# Altium footprint library Diodes.PcbLib: 7 footprints
Each footprint in its own frame and in the unit in brackets; x right, y up, seen from the top. Pads: shape width x height; smd on the part's side, far side on the other; paste and mask are expansions set on the pad; w line width, h text height; cw(c..) or ccw(c..) is an arc to the next point about the centre after c.
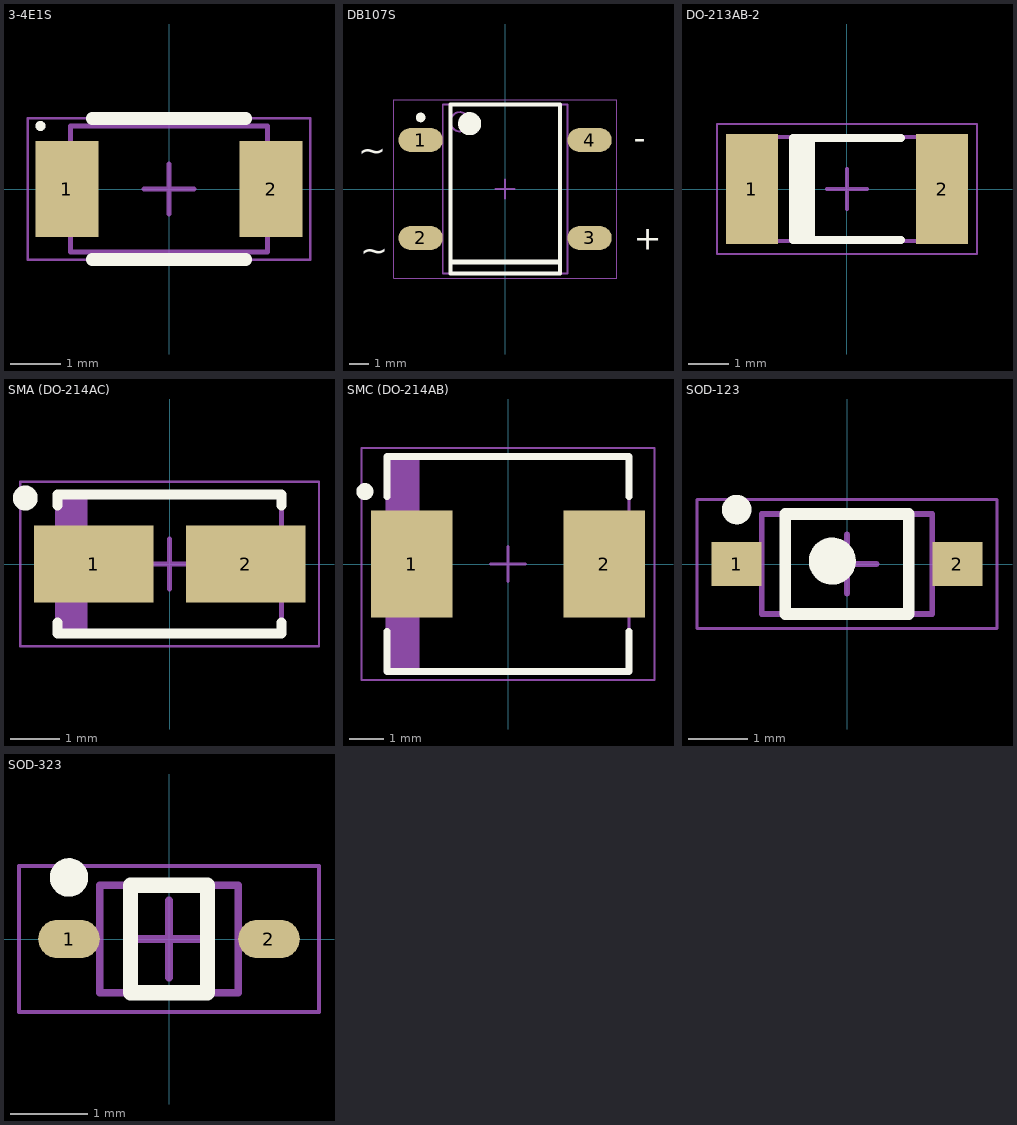
[diagram p0: the footprints below, top view; thin cyan lines are the x and y axes]

## 3-4E1S [mm] "SODFL, 2-Leads, Body 2.40x4.70mm, IPC Medium Density"
height 1
pads (2):
  rect 1.25x1.9 smd: 1(-2.025,0) 2(2.025,0)
Top Overlay:
  circle w0.1: c-2.55,1.25 r0.05
  lines w0.254: -1.524,-1.397 1.524,-1.397 ; -1.524,1.397 1.524,1.397
Top Designator:
  text ".Designator" at -5.998,-0.4 h1.2
Mechanical 13:
  lines w0.1: -1.95,-1.25 1.95,-1.25 1.95,1.25 -1.95,1.25 -1.95,-1.25
Mechanical 15:
  lines w0.05: -2.8,-1.4 2.8,-1.4 2.8,1.4 -2.8,1.4 -2.8,-1.4
  lines w0.1: -0.5,0 0.5,0 ; 0,-0.5 0,0.5
3D body "SODFL470X100-2N.step": height 1, standoff 0, extent -2.35,-1.25 2.35,1.25

## DB107S [mm] "SOP, 4-Leads, Body 8.30x6.35mm, Pitch 5.10mm, IPC Medium Density"
height 3.4
pads (4):
  oval 2.3x1.25 smd: 1(-4.4,2.55) 2(-4.4,-2.55) 3(4.4,-2.55) 4(4.4,2.55)
Top Overlay:
  circle w0.6: c-1.85,3.4 r0.3
  circle w0.25: c-4.4,3.725 r0.125
  lines w0.2: -2.85,-4.4 2.85,-4.4 2.85,4.4 -2.85,4.4 -2.85,-4.4
  lines w0.254: -2.794,-3.81 2.794,-3.81
  text "~" at -7.535,-3.81 h1.27
  text "~" at -7.662,1.397 h1.27
  text "+" at 6.689,-3.175 h1.27
  text "-" at 6.689,2.032 h1.27
Top Designator:
  text ".Designator" at -5.998,-0.4 h1.2
Mechanical 13:
  circle w0.1: c-2.35,3.5 r0.5
  lines w0.1: -3.25,-4.4 3.25,-4.4 3.25,4.4 -3.25,4.4 -3.25,-4.4
Mechanical 15:
  lines w0.05: -5.8,-4.65 5.8,-4.65 5.8,4.65 -5.8,4.65 -5.8,-4.65
  lines w0.1: -0.5,0 0.5,0 ; 0,-0.5 0,0.5
3D body "SOP510P990X340-4N.step": height 3.4, standoff 0, extent -4.95,-4.4 4.95,4.4

## DO-213AB-2 [mm] "MELF Diode, 2-Leads, Body 5.00x2.50mm, IPC Medium Density"
height 2.6
pads (2):
  rect 1.3x2.75 smd: 1(-2.375,0) 2(2.375,0)
Top Overlay:
  rectangle: -1.35,-1.275 -0.8,1.275
  lines w0.2: 1.35,-1.275 -1.35,-1.275 -1.35,1.275 1.35,1.275
Top Designator:
  text ".Designator" at -5.998,-0.4 h1.2
Mechanical 13:
  lines w0.1: -2.6,-1.3 2.6,-1.3 2.6,1.3 -2.6,1.3 -2.6,-1.3
Mechanical 15:
  lines w0.05: -3.25,-1.625 3.25,-1.625 3.25,1.625 -3.25,1.625 -3.25,-1.625
  lines w0.1: -0.5,0 0.5,0 ; 0,-0.5 0,0.5
3D body "DIOMELF5025N.step": height 2.5, standoff 0, extent -2.5,-1.241 2.5,1.241

## SMA (DO-214AC) [mm] "Molded Diode, 2-Leads, Body 4.25x2.67mm, IPC Medium Density"
height 2.29
pads (2):
  rect 2.4x1.55 smd: 1(-1.525,0) 2(1.525,0)
Top Overlay:
  circle w0.25: c-2.9,1.325 r0.125
  lines w0.2: -2.25,-1.175 -2.25,-1.4 2.25,-1.4 2.25,-1.175 ; -2.25,1.175 -2.25,1.4 2.25,1.4 2.25,1.175
Top Designator:
  text ".Designator" at -5.998,-0.4 h1.2
Mechanical 13:
  rectangle: -2.25,-1.395 -1.645,1.395
  lines w0.1: -2.25,-1.395 2.25,-1.395 2.25,1.395 -2.25,1.395 -2.25,-1.395
Mechanical 15:
  lines w0.05: -3,-1.65 3,-1.65 3,1.65 -3,1.65 -3,-1.65
  lines w0.1: -0.5,0 0.5,0 ; 0,-0.5 0,0.5
3D body "DIOM4227X23N.step": height 2.29, standoff 0, extent -2.47,-1.395 2.47,1.395

## SMC (DO-214AB) [mm] "Molded Diode, 2-Leads, Body 6.85x5.91mm, IPC Medium Density"
height 2.62
pads (2):
  rect 2.4x3.15 smd: 1(-2.825,0) 2(2.825,0)
Top Overlay:
  circle w0.25: c-4.2,2.125 r0.125
  lines w0.2: -3.55,-1.975 -3.55,-3.15 3.55,-3.15 3.55,-1.975 ; -3.55,1.975 -3.55,3.15 3.55,3.15 3.55,1.975
Top Designator:
  text ".Designator" at -5.998,-0.4 h1.2
Mechanical 13:
  rectangle: -3.55,-3.11 -2.595,3.11
  lines w0.1: -3.55,-3.11 3.55,-3.11 3.55,3.11 -3.55,3.11 -3.55,-3.11
Mechanical 15:
  lines w0.05: -4.3,-3.4 4.3,-3.4 4.3,3.4 -4.3,3.4 -4.3,-3.4
  lines w0.1: -0.5,0 0.5,0 ; 0,-0.5 0,0.5
3D body "DIOM6859X26N.step": height 2.62, standoff 0, extent -3.77,-3.11 3.77,3.11

## SOD-123 [mm] "SOIC, 2-Leads, Body 1.55x2.70mm, Pitch 1.27mm, IPC Medium Density"
height 1.35
pads (2):
  rect 0.85x0.75 smd: 1(-1.875,0) 2(1.875,0)
Top Overlay:
  circle w0.25: c-1.875,0.925 r0.125
  circle w0.4: c-0.25,0.05 r0.2
  lines w0.2: -1.05,-0.85 -1.05,0.85 1.05,0.85 1.05,-0.85 -1.05,-0.85
Top Designator:
  text ".Designator" at -5.998,-0.4 h1.2
Mechanical 13:
  lines w0.1: -1.45,-0.85 -1.45,0.85 1.45,0.85 1.45,-0.85 -1.45,-0.85
Mechanical 15:
  lines w0.05: -2.55,-1.1 -2.55,1.1 2.55,1.1 2.55,-1.1 -2.55,-1.1
  lines w0.1: -0.5,0 0.5,0 ; 0,-0.5 0,0.5
3D body "SOIC127P370X135-2N.step": height 1.35, standoff 0.01, extent -1.843,-0.85 1.843,0.85

## SOD-323 [mm] "SOIC, 2-Leads, Body 1.25x1.70mm, Pitch 1.27mm, IPC Medium Density"
height 1
pads (2):
  oval 0.8x0.5 smd: 1(-1.3,0) 2(1.3,0)
Top Overlay:
  circle w0.25: c-1.3,0.8 r0.125
  lines w0.2: -0.5,-0.7 -0.5,0.7 0.5,0.7 0.5,-0.7 -0.5,-0.7
Top Designator:
  text ".Designator" at -5.998,-0.4 h1.2
Mechanical 13:
  lines w0.1: -0.9,-0.7 -0.9,0.7 0.9,0.7 0.9,-0.7 -0.9,-0.7
Mechanical 15:
  lines w0.05: -1.95,-0.95 -1.95,0.95 1.95,0.95 1.95,-0.95 -1.95,-0.95
  lines w0.1: -0.5,0 0.5,0 ; 0,-0.5 0,0.5
3D body "SOD-323.step": height 1, standoff 0, extent -1.37,-0.7 1.37,0.7